# Altium footprint library Optoisolators.PcbLib: 1 footprints
Each footprint in its own frame and in the unit in brackets; x right, y up, seen from the top. Pads: shape width x height; smd on the part's side, far side on the other; paste and mask are expansions set on the pad; w line width, h text height; cw(c..) or ccw(c..) is an arc to the next point about the centre after c.
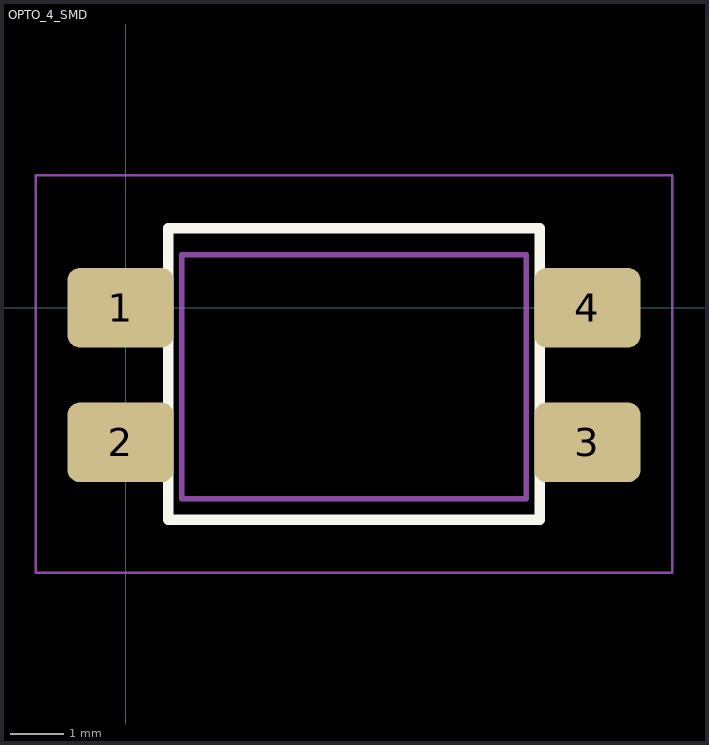
[diagram p0: the footprint, top view; thin cyan lines are the x and y axes]

## OPTO_4_SMD [mm]
pads (4):
  rrect30% 2x1.5 smd: 1(-0.1,0) 2(-0.1,-2.54) 3(8.7,-2.54) 4(8.7,0)
Top Overlay:
  lines w0.2: 0.8,-4 0.8,1.5 7.8,1.5 7.8,-4 0.8,-4
Mechanical 13:
  lines w0.1: 1.05,-3.6 1.05,1 7.55,1 7.55,-3.6 1.05,-3.6
Mechanical 15:
  lines w0.05: -1.7,-5 -1.7,2.5 10.3,2.5 10.3,-5 -1.7,-5
3D body "User Library-PC817_Gullwing.STEP": height 3.85, standoff 0, extent -0.7,-3.59 9.3,0.99